# Altium footprint library led_7seg_big.PcbLib: 17 footprints (part 1 of 2)
Each footprint in its own frame and in the unit in brackets; x right, y up, seen from the top. Pads: shape width x height; smd on the part's side, far side on the other; paste and mask are expansions set on the pad; w line width, h text height; cw(c..) or ccw(c..) is an arc to the next point about the centre after c.
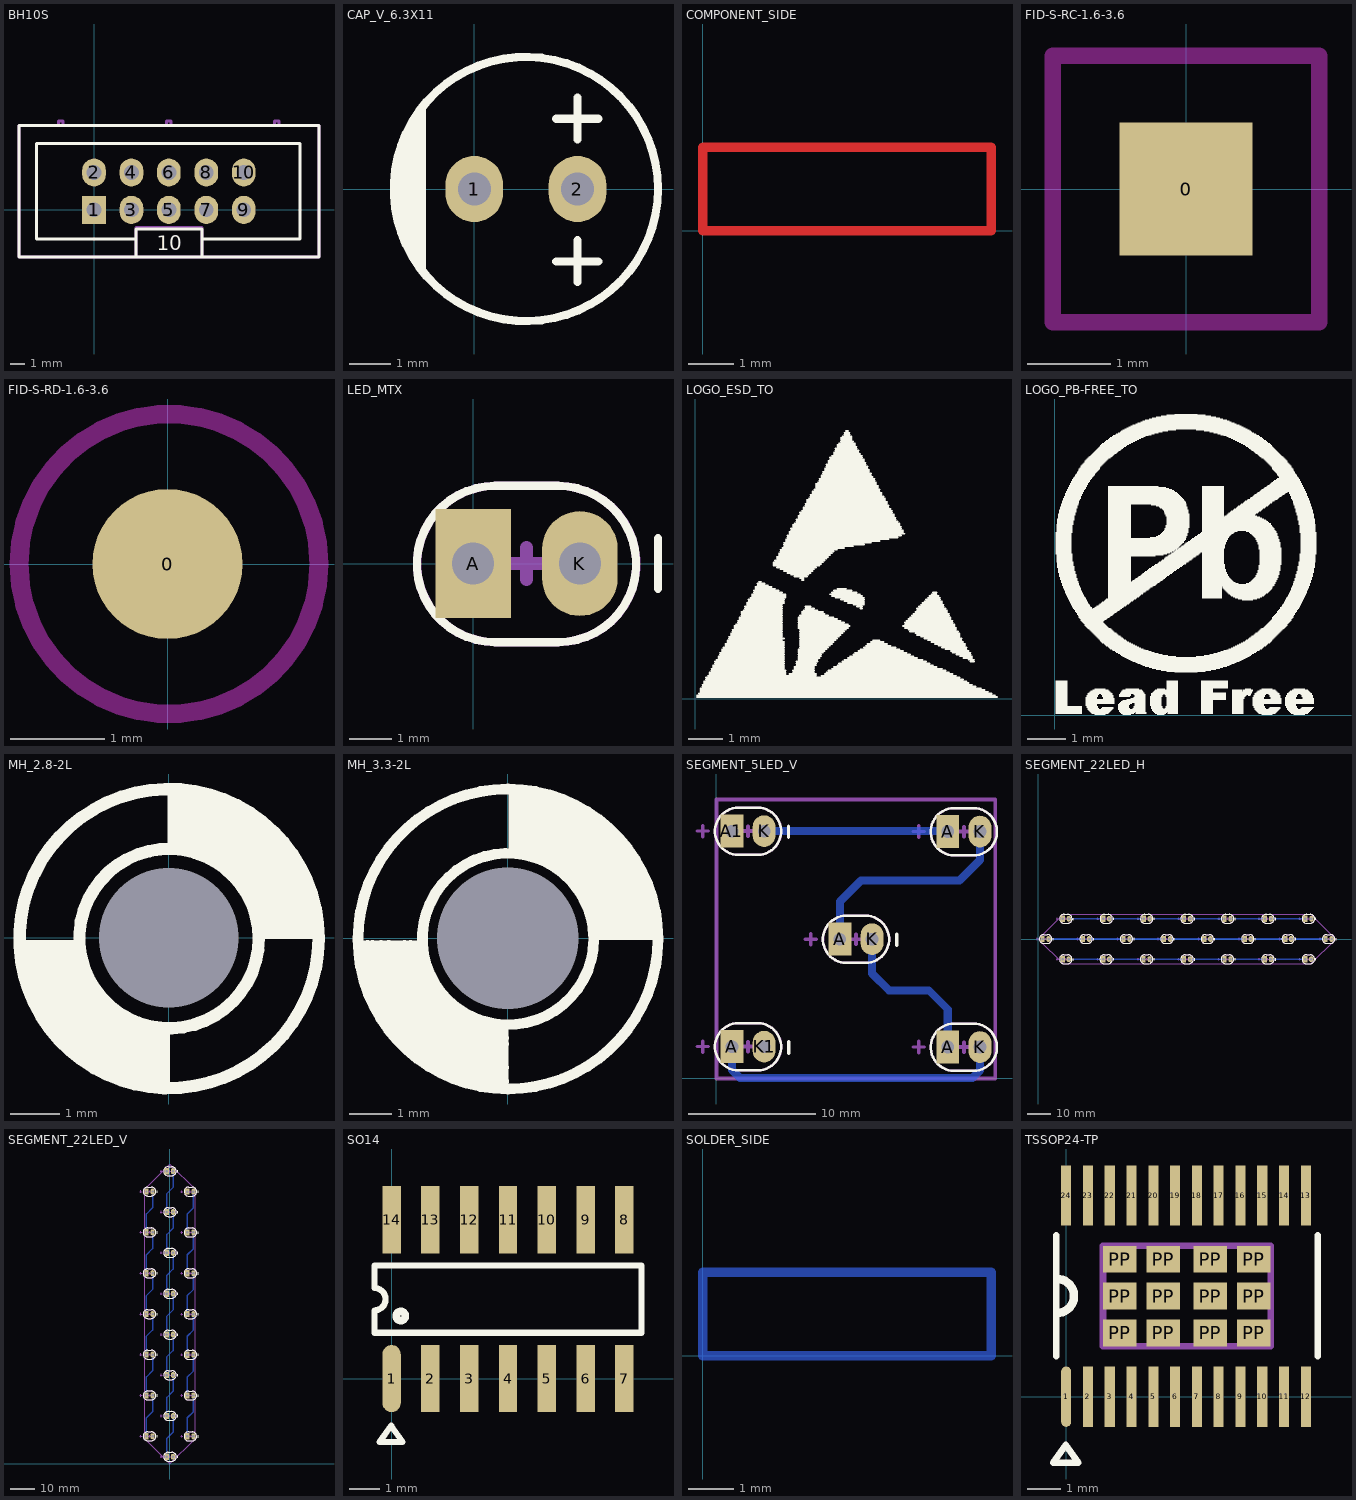
[diagram p0: the footprints below, top view; thin cyan lines are the x and y axes]

## BH10S [mm]
pads (10):
  rect 1.6x1.9 hole 1: 1(0,0)
  oval 1.6x1.9 hole 1: 2(0,2.54) 3(2.54,0) 4(2.54,2.54) 5(5.08,0) 6(5.08,2.54) 7(7.62,0) 8(7.62,2.54) 9(10.16,0) 10(10.16,2.54)
Top Overlay:
  lines w0.2: 2.835,-3.185 2.835,-1.29 7.335,-1.29 7.335,-3.185 ; 2.835,-1.985 -3.89,-1.985 -3.89,4.515 13.96,4.515 13.96,-1.985 7.335,-1.985 ; -5.09,-3.185 -5.09,5.715 15.26,5.715 15.26,-3.185 -5.09,-3.185
  text "10" at 4.26,-2.735 h1
Mechanical 1:
  lines w0.2: 12.55,6 12.55,5.715 15.26,5.715 15.26,-3.185 -5.09,-3.185 -5.09,5.715 -2.4,5.715 -2.4,6.015 -2.1,6.015 -2.1,5.715 4.925,5.715 4.925,6.015 5.225,6.015 5.225,5.715 12.25,5.715 12.25,6.015 12.55,6.015 ; 2.835,-3.185 2.835,-1.185 7.335,-1.185 7.335,-3.185 2.835,-3.185

## CAP_V_6.3X11 [mm]
pads (2):
  oval 1.4x1.6 hole 0.8: 1(0,0) 2(2.5,0)
Top Overlay:
  circle w0.2: c1.25,0 r3.2
  region: -1.168,-1.702 -1.168,-1.346 -1.549,-1.346 -1.549,-1.702
  region: -1.721,1.397 -1.721,-1.346 -1.168,-1.346 -1.168,1.397
  region: -1.575,1.702 -1.575,1.372 -1.168,1.372 -1.168,1.702
  region: -1.88,0.711 -1.88,-0.914 -1.702,-0.914 -1.702,0.711
  region: -1.88,0.914 -1.88,0.66 -1.651,0.66 -1.651,0.914
  region: -1.372,-1.702 -1.372,-1.981 -1.168,-1.981 -1.168,-1.702
  region: -1.346,1.956 -1.346,1.549 -1.168,1.549 -1.168,1.956
  lines w0.2: 1.984,-1.754 3,-1.754 ; 1.984,1.7 3,1.7 ; 2.5,-2.254 2.5,-1.238 ; 2.5,1.2 2.5,2.216

## COMPONENT_SIDE [mm]
Top Layer:
  lines w0.203: 0,0 0,1.829 6.325,1.829 6.325,0 0,0
  text "C-SIDE" at 0.406,0.422 h1
Top Solder:
  rectangle: -0.127,-0.127 6.452,1.956

## FID-S-RC-1.6-3.6 [mm]
pads (1):
  rect 1.6x1.6 smd: 0(0,0)
Top Layer keep-out:
  lines w0.2: -1.6,-1.6 -1.6,1.6 1.6,1.6 1.6,-1.6 -1.6,-1.6
Top Solder:
  rectangle: -1.8,-1.8 1.8,1.8

## FID-S-RD-1.6-3.6 [mm]
pads (1):
  round 1.6 smd: 0(0,0)
Top Layer keep-out:
  circle w0.2: c0.016,0 r1.6
Top Solder:
  circle w3: c0,0 r0.3

## LED_MTX [mm]
pads (2):
  rect 1.8x2.6 hole 1: A(0,0)
  oval 1.8x2.5 hole 1: K(2.54,0)
Top Overlay:
  lines w0.2: 4.4,-0.6 4.4,0.6 ; 0.52,-1.872 cw(c0.52,-0.011) 0.52,1.85 2.02,1.85 cw(c2.02,-0.011) 2.02,-1.872 0.52,-1.872
Bottom Overlay:
  lines w0.2: -2.5,0 -1.3,0 ; -1.9,-0.6 -1.9,0.6 ; 4.4,-0.6 4.4,0.6
Top Solder:
  lines w0.254: -2.743,0 -1.843,0 ; -2.293,-0.45 -2.293,0.45
Mechanical 1:
  lines w0.2: 0.525,-1.872 cw(c0.525,-0.011) 0.525,1.85 2.025,1.85 cw(c2.025,-0.011) 2.025,-1.872 0.525,-1.872
Mechanical 4:
  lines w0.305: 0.762,0 1.778,0 ; 1.27,-0.381 1.27,0.381

## LOGO_ESD_TO [mm]
Top Overlay:
  drawing of 263 lines, arcs and shapes, not listed
Mechanical 13:
  text "ESD SENSITIVE" at -1.9,-1.6 h1

## LOGO_PB-FREE_TO [mm]
Top Overlay:
  drawing of 1186 lines, arcs and shapes, not listed

## MH_2.8-2L [mm]
pads (1):
  round 0 hole 2.8 unplated: 0(0,0)
Top Overlay:
  circle w0.25: c0.007,-0.019 r3
  circle w0.25: c0.007,-0.019 r1.8
  region: -1.783,-0.15 -1.752,-0.458 -1.663,-0.753 -1.517,-1.026 -1.321,-1.265 -1.315,-1.26 -1.067,-1.466 -0.835,-1.644 -0.565,-1.756 -0.275,-1.794 -0.275,-1.784 -0.075,-1.825 -0.075,-3.025 -0.148,-3.037 -0.646,-2.988 -1.125,-2.843 -1.566,-2.607 -1.953,-2.29 -1.944,-2.281 -2.19,-2.053 -2.507,-1.666 -2.743,-1.225 -2.888,-0.746 -2.937,-0.248 -2.925,-0.248 -2.925,-0.15
  region: 1.783,0.075 1.752,0.383 1.663,0.678 1.517,0.951 1.321,1.19 1.315,1.185 1.067,1.391 0.835,1.569 0.565,1.681 0.275,1.719 0.275,1.709 0.075,1.75 0.075,2.95 0.148,2.962 0.646,2.913 1.125,2.768 1.566,2.532 1.953,2.215 1.944,2.206 2.19,1.978 2.507,1.591 2.743,1.15 2.888,0.671 2.937,0.173 2.925,0.173 2.925,0.075
  lines w0.25: -2.925,-0.175 -1.85,-0.175 ; -0.101,-2.95 -0.1,-1.9 ; 0.1,1.825 0.101,2.875 ; 1.85,0.1 2.925,0.1
  lines w0.254: -2.954,-0.171 ccw(c0.019,-0.044) -0.098,-3.017 ; 0.098,2.942 cw(c-0.019,-0.031) 2.954,0.096

## MH_3.3-2L [mm]
pads (1):
  round 0 hole 3.3 unplated: 0(0,0)
Top Overlay:
  circle w0.25: c0.007,-0.019 r2
  circle w0.25: c0.007,-0.019 r3.5
  lines w0.25: -3.481,-0.174 -2.011,-0.174 ; -0.101,-3.494 -0.101,-2.024 ; 0.149,1.996 0.149,3.466 ; 2.019,0.086 3.489,0.086
  lines w0.254: -3.273,-0.166 ccw(c0.019,-0.044) -0.096,-3.337 ; -3.153,-0.174 ccw(c0.019,-0.044) -0.106,-3.217 ; -2.954,-0.171 ccw(c0.019,-0.044) -0.098,-3.017 ; -2.775,-0.174 ccw(c0.019,-0.044) -0.107,-2.838 ; -2.583,-0.177 ccw(c0.019,-0.044) -0.104,-2.647 ; -2.404,-0.175 ccw(c0.019,-0.044) -0.102,-2.467 ; -2.267,-0.174 ccw(c0.019,-0.044) -0.101,-2.331 ; -2.045,-0.161 ccw(c0.019,-0.044) -0.106,-2.108 ; 0.261,3.376 cw(c0.146,0.083) 3.438,0.205 ; 0.263,3.056 cw(c0.146,0.083) 3.119,0.21 ; 0.266,2.37 cw(c0.146,0.083) 2.432,0.213 ; 0.267,2.506 cw(c0.146,0.083) 2.569,0.214 ; 0.269,2.686 cw(c0.146,0.083) 2.748,0.216 ; 0.271,2.147 cw(c0.146,0.083) 2.21,0.2 ; 0.271,3.256 cw(c0.146,0.083) 3.318,0.213 ; 0.272,2.877 cw(c0.146,0.083) 2.94,0.213
Bottom Overlay:
  circle w0.25: c0.007,-0.019 r3.5
  circle w0.25: c0.007,-0.019 r2
  lines w0.25: -3.481,-0.174 -2.011,-0.174 ; -0.101,-3.494 -0.101,-2.024 ; 0.149,1.996 0.149,3.466 ; 2.019,0.086 3.489,0.086
  lines w0.254: -3.273,-0.166 ccw(c0.019,-0.044) -0.096,-3.337 ; -3.153,-0.174 ccw(c0.019,-0.044) -0.106,-3.217 ; -2.954,-0.171 ccw(c0.019,-0.044) -0.098,-3.017 ; -2.775,-0.174 ccw(c0.019,-0.044) -0.107,-2.838 ; -2.583,-0.177 ccw(c0.019,-0.044) -0.104,-2.647 ; -2.404,-0.175 ccw(c0.019,-0.044) -0.102,-2.467 ; -2.267,-0.174 ccw(c0.019,-0.044) -0.101,-2.331 ; -2.045,-0.161 ccw(c0.019,-0.044) -0.106,-2.108 ; 0.261,3.376 cw(c0.146,0.083) 3.438,0.205 ; 0.263,3.056 cw(c0.146,0.083) 3.119,0.21 ; 0.266,2.37 cw(c0.146,0.083) 2.432,0.213 ; 0.267,2.506 cw(c0.146,0.083) 2.569,0.214 ; 0.269,2.686 cw(c0.146,0.083) 2.748,0.216 ; 0.271,2.147 cw(c0.146,0.083) 2.21,0.2 ; 0.271,3.256 cw(c0.146,0.083) 3.318,0.213 ; 0.272,2.877 cw(c0.146,0.083) 2.94,0.213

## SEGMENT_5LED_V [mm]
pads (10):
  rect 1.8x2.6 hole 1: A(1.23,2.5) A(9.746,10.976) A(18.255,2.467) A(18.255,19.467) A1(1.23,19.5)
  oval 1.8x2.5 hole 1: K(3.77,19.5) K(12.286,10.976) K(20.795,2.467) K(20.795,19.467) K1(3.77,2.5)
Bottom Layer:
  lines w0.635: 1.23,2.5 1.23,0.67 1.857,0.043 20.209,0.043 20.795,0.629 20.795,2.467 ; 3.77,19.5 18.255,19.5 ; 9.746,10.976 9.746,13.946 11.4,15.6 19.184,15.6 20.795,17.211 20.795,19.467 ; 12.286,10.976 12.286,8.266 13.609,6.943 16.757,6.943 18.255,5.445 18.255,2.467
Top Overlay:
  lines w0.2: 1.75,0.628 cw(c1.75,2.489) 1.75,4.35 3.25,4.35 cw(c3.25,2.489) 3.25,0.628 1.75,0.628 ; 1.75,17.628 cw(c1.75,19.489) 1.75,21.35 3.25,21.35 cw(c3.25,19.489) 3.25,17.628 1.75,17.628 ; 10.266,9.104 cw(c10.266,10.965) 10.266,12.826 11.766,12.826 cw(c11.766,10.965) 11.766,9.104 10.266,9.104 ; 18.775,0.595 cw(c18.775,2.456) 18.775,4.317 20.275,4.317 cw(c20.275,2.456) 20.275,0.595 18.775,0.595 ; 18.775,17.595 cw(c18.775,19.456) 18.775,21.317 20.275,21.317 cw(c20.275,19.456) 20.275,17.595 18.775,17.595
  lines w0.254: 5.7,19 5.7,19.9 ; 5.719,1.982 5.719,2.882 ; 14.228,10.491 14.228,11.391
Bottom Overlay:
  lines w0.254: -1.525,19.528 -0.625,19.528 ; -1.506,2.51 -0.606,2.51 ; -1.075,19.078 -1.075,19.978 ; -1.056,2.06 -1.056,2.96 ; 5.7,19 5.7,19.9 ; 5.719,1.982 5.719,2.882 ; 7.003,11.019 7.903,11.019 ; 7.453,10.569 7.453,11.469 ; 14.228,10.491 14.228,11.391 ; 15.478,2.716 16.378,2.716 ; 15.478,19.734 16.378,19.734 ; 15.928,2.266 15.928,3.166 ; 15.928,19.284 15.928,20.184
Mechanical 1:
  lines w0.2: 1.755,0.628 cw(c1.755,2.489) 1.755,4.35 3.255,4.35 cw(c3.255,2.489) 3.255,0.628 1.755,0.628 ; 1.755,17.628 cw(c1.755,19.489) 1.755,21.35 3.255,21.35 cw(c3.255,19.489) 3.255,17.628 1.755,17.628 ; 10.271,9.104 cw(c10.271,10.965) 10.271,12.826 11.771,12.826 cw(c11.771,10.965) 11.771,9.104 10.271,9.104 ; 18.78,0.595 cw(c18.78,2.456) 18.78,4.317 20.28,4.317 cw(c20.28,2.456) 20.28,0.595 18.78,0.595 ; 18.78,17.595 cw(c18.78,19.456) 18.78,21.317 20.28,21.317 cw(c20.28,19.456) 20.28,17.595 18.78,17.595
  lines w0.305: 1.992,2.5 3.008,2.5 ; 1.992,19.5 3.008,19.5 ; 2.5,2.119 2.5,2.881 ; 2.5,19.119 2.5,19.881 ; 10.508,10.976 11.524,10.976 ; 11.016,10.595 11.016,11.357 ; 19.017,2.467 20.033,2.467 ; 19.017,19.467 20.033,19.467 ; 19.525,2.086 19.525,2.848 ; 19.525,19.086 19.525,19.848 ; 0,0 22,0 22,21.982 0,21.982 0,0
Mechanical 13:
  lines w0.254: -1.513,2.5 -0.613,2.5 ; -1.513,19.5 -0.613,19.5 ; -1.063,2.05 -1.063,2.95 ; -1.063,19.05 -1.063,19.95 ; 7.003,10.976 7.903,10.976 ; 7.453,10.526 7.453,11.426 ; 15.512,2.467 16.412,2.467 ; 15.512,19.467 16.412,19.467 ; 15.962,2.017 15.962,2.917 ; 15.962,19.017 15.962,19.917
3D body "LED_oval.step": height 7.3, standoff -4.2, extent 0.4,17.904 4.6,21.096
3D body "LED_oval.step": height 7.3, standoff -4.2, extent 17.425,17.871 21.625,21.063
3D body "LED_oval.step": height 7.3, standoff -4.2, extent 8.916,9.38 13.116,12.572
3D body "LED_oval.step": height 7.3, standoff -4.2, extent 0.4,0.904 4.6,4.096
3D body "LED_oval.step": height 7.3, standoff -4.2, extent 17.425,0.871 21.625,4.063

## SEGMENT_22LED_H [mm]
pads (44):
  rect 1.8x2.6 hole 1: A(18.75,0) A(27.21,-8.5) A(27.25,8.5) A(35.75,0) A(44.21,-8.5) A(44.25,8.5) A(52.75,0) A(61.21,-8.5) A(61.25,8.5) A(69.75,0) A(78.21,-8.5) A(78.25,8.5) A(86.75,0) A(95.21,-8.5) A(95.25,8.5) A(103.75,0) A(112.21,-8.5) A(112.25,8.5) A(120.75,0) A1(10.21,-8.5) A2(1.75,0) A3(10.25,8.5)
  oval 1.8x2.5 hole 1: K(4.29,0) K(12.75,-8.5) K(12.79,8.5) K(21.29,0) K(29.75,-8.5) K(29.79,8.5) K(38.29,0) K(46.75,-8.5) K(46.79,8.5) K(55.29,0) K(63.75,-8.5) K(63.79,8.5) K(72.29,0) K(80.75,-8.5) K(80.79,8.5) K(89.29,0) K(97.75,-8.5) K(97.79,8.5) K(106.29,0) K1(114.79,8.5) K2(123.29,0) K3(114.75,-8.5)
Bottom Layer:
  lines w0.635: 4.29,0 18.75,0 ; 12.75,-8.5 27.21,-8.5 ; 12.79,8.5 27.25,8.5 ; 21.29,0 35.75,0 ; 29.75,-8.5 44.21,-8.5 ; 29.79,8.5 44.25,8.5 ; 38.29,0 52.75,0 ; 46.75,-8.5 61.21,-8.5 ; 46.79,8.5 61.25,8.5 ; 55.29,0 69.75,0 ; 63.75,-8.5 78.21,-8.5 ; 63.79,8.5 78.25,8.5 ; 72.29,0 86.75,0 ; 80.75,-8.5 95.21,-8.5 ; 80.79,8.5 95.25,8.5 ; 89.29,0 103.75,0 ; 97.75,-8.5 112.21,-8.5 ; 97.79,8.5 112.25,8.5 ; 106.29,0 120.75,0
Top Overlay:
  lines w0.2: 2.27,-1.872 cw(c2.27,-0.011) 2.27,1.85 3.77,1.85 cw(c3.77,-0.011) 3.77,-1.872 2.27,-1.872 ; 10.73,-10.372 cw(c10.73,-8.511) 10.73,-6.65 12.23,-6.65 cw(c12.23,-8.511) 12.23,-10.372 10.73,-10.372 ; 10.77,6.628 cw(c10.77,8.489) 10.77,10.35 12.27,10.35 cw(c12.27,8.489) 12.27,6.628 10.77,6.628 ; 19.27,-1.872 cw(c19.27,-0.011) 19.27,1.85 20.77,1.85 cw(c20.77,-0.011) 20.77,-1.872 19.27,-1.872 ; 27.73,-10.372 cw(c27.73,-8.511) 27.73,-6.65 29.23,-6.65 cw(c29.23,-8.511) 29.23,-10.372 27.73,-10.372 ; 27.77,6.628 cw(c27.77,8.489) 27.77,10.35 29.27,10.35 cw(c29.27,8.489) 29.27,6.628 27.77,6.628 ; 36.27,-1.872 cw(c36.27,-0.011) 36.27,1.85 37.77,1.85 cw(c37.77,-0.011) 37.77,-1.872 36.27,-1.872 ; 44.73,-10.372 cw(c44.73,-8.511) 44.73,-6.65 46.23,-6.65 cw(c46.23,-8.511) 46.23,-10.372 44.73,-10.372 ; 44.77,6.628 cw(c44.77,8.489) 44.77,10.35 46.27,10.35 cw(c46.27,8.489) 46.27,6.628 44.77,6.628 ; 53.27,-1.872 cw(c53.27,-0.011) 53.27,1.85 54.77,1.85 cw(c54.77,-0.011) 54.77,-1.872 53.27,-1.872 ; 61.73,-10.372 cw(c61.73,-8.511) 61.73,-6.65 63.23,-6.65 cw(c63.23,-8.511) 63.23,-10.372 61.73,-10.372 ; 61.77,6.628 cw(c61.77,8.489) 61.77,10.35 63.27,10.35 cw(c63.27,8.489) 63.27,6.628 61.77,6.628 ; 70.27,-1.872 cw(c70.27,-0.011) 70.27,1.85 71.77,1.85 cw(c71.77,-0.011) 71.77,-1.872 70.27,-1.872 ; 78.73,-10.372 cw(c78.73,-8.511) 78.73,-6.65 80.23,-6.65 cw(c80.23,-8.511) 80.23,-10.372 78.73,-10.372 ; 78.77,6.628 cw(c78.77,8.489) 78.77,10.35 80.27,10.35 cw(c80.27,8.489) 80.27,6.628 78.77,6.628 ; 87.27,-1.872 cw(c87.27,-0.011) 87.27,1.85 88.77,1.85 cw(c88.77,-0.011) 88.77,-1.872 87.27,-1.872 ; 95.73,-10.372 cw(c95.73,-8.511) 95.73,-6.65 97.23,-6.65 cw(c97.23,-8.511) 97.23,-10.372 95.73,-10.372 ; 95.77,6.628 cw(c95.77,8.489) 95.77,10.35 97.27,10.35 cw(c97.27,8.489) 97.27,6.628 95.77,6.628 ; 104.27,-1.872 cw(c104.27,-0.011) 104.27,1.85 105.77,1.85 cw(c105.77,-0.011) 105.77,-1.872 104.27,-1.872 ; 112.73,-10.372 cw(c112.73,-8.511) 112.73,-6.65 114.23,-6.65 cw(c114.23,-8.511) 114.23,-10.372 112.73,-10.372 ; 112.77,6.628 cw(c112.77,8.489) 112.77,10.35 114.27,10.35 cw(c114.27,8.489) 114.27,6.628 112.77,6.628 ; 121.27,-1.872 cw(c121.27,-0.011) 121.27,1.85 122.77,1.85 cw(c122.77,-0.011) 122.77,-1.872 121.27,-1.872
  lines w0.254: 6.203,-0.576 6.203,0.324 ; 14.7,7.9 14.7,8.8 ; 14.719,-9.118 14.719,-8.218 ; 23.228,-0.609 23.228,0.291 ; 31.703,-8.912 31.703,-8.012 ; 31.703,8.106 31.703,9.006 ; 40.219,-0.436 40.219,0.464 ; 48.728,-8.945 48.728,-8.045 ; 48.728,8.073 48.728,8.973 ; 57.203,-0.53 57.203,0.37 ; 65.719,-9.072 65.719,-8.172 ; 65.719,7.946 65.719,8.846 ; 74.228,-0.563 74.228,0.337 ; 82.703,-9.039 82.703,-8.139 ; 82.703,7.979 82.703,8.879 ; 91.219,-0.563 91.219,0.337 ; 99.728,-9.072 99.728,-8.172 ; 99.728,7.946 99.728,8.846 ; 108.103,-0.457 108.103,0.443 ; 116.619,-8.999 116.619,-8.099 ; 116.619,8.019 116.619,8.919 ; 125.128,-0.49 125.128,0.41
Bottom Overlay:
  lines w0.254: -1.022,-0.048 -0.122,-0.048 ; -0.572,-0.498 -0.572,0.402 ; 6.203,-0.576 6.203,0.324 ; 7.475,8.428 8.375,8.428 ; 7.494,-8.59 8.394,-8.59 ; 7.925,7.978 7.925,8.878 ; 7.944,-9.04 7.944,-8.14 ; 14.7,7.9 14.7,8.8 ; 14.719,-9.118 14.719,-8.218 ; 16.003,-0.081 16.903,-0.081 ; 16.453,-0.531 16.453,0.369 ; 23.228,-0.609 23.228,0.291 ; 24.478,-8.384 25.378,-8.384 ; 24.478,8.634 25.378,8.634 ; 24.928,-8.834 24.928,-7.934 ; 24.928,8.184 24.928,9.084 ; 31.703,-8.912 31.703,-8.012 ; 31.703,8.106 31.703,9.006 ; 32.994,0.092 33.894,0.092 ; 33.444,-0.358 33.444,0.542 ; 40.219,-0.436 40.219,0.464 ; 41.503,-8.417 42.403,-8.417 ; 41.503,8.601 42.403,8.601 ; 41.953,-8.867 41.953,-7.967 ; 41.953,8.151 41.953,9.051 ; 48.728,-8.945 48.728,-8.045 ; 48.728,8.073 48.728,8.973 ; 49.978,-0.002 50.878,-0.002 ; 50.428,-0.452 50.428,0.448 ; 57.203,-0.53 57.203,0.37 ; 58.494,-8.544 59.394,-8.544 ; 58.494,8.474 59.394,8.474 ; 58.944,-8.994 58.944,-8.094 ; 58.944,8.024 58.944,8.924 ; 65.719,-9.072 65.719,-8.172 ; 65.719,7.946 65.719,8.846 ; 67.003,-0.035 67.903,-0.035 ; 67.453,-0.485 67.453,0.415 ; 74.228,-0.563 74.228,0.337 ; 75.478,-8.511 76.378,-8.511 ; 75.478,8.507 76.378,8.507 ; 75.928,-8.961 75.928,-8.061 ; 75.928,8.057 75.928,8.957 ; 82.703,-9.039 82.703,-8.139 ; 82.703,7.979 82.703,8.879 ; 83.994,-0.035 84.894,-0.035 ; 84.444,-0.485 84.444,0.415 ; 91.219,-0.563 91.219,0.337 ; 92.503,-8.544 93.403,-8.544 ; 92.503,8.474 93.403,8.474 ; 92.953,-8.994 92.953,-8.094 ; 92.953,8.024 92.953,8.924 ; 99.728,-9.072 99.728,-8.172 ; 99.728,7.946 99.728,8.846 ; 100.878,0.071 101.778,0.071 ; 101.328,-0.379 101.328,0.521 ; 108.103,-0.457 108.103,0.443 ; 109.394,-8.471 110.294,-8.471 ; 109.394,8.547 110.294,8.547 ; 109.844,-8.921 109.844,-8.021 ; 109.844,8.097 109.844,8.997 ; 116.619,-8.999 116.619,-8.099 ; 116.619,8.019 116.619,8.919 ; 117.903,0.038 118.803,0.038 ; 118.353,-0.412 118.353,0.488 ; 125.128,-0.49 125.128,0.41
Mechanical 1:
  lines w0.2: 2.275,-1.872 cw(c2.275,-0.011) 2.275,1.85 3.775,1.85 cw(c3.775,-0.011) 3.775,-1.872 2.275,-1.872 ; 10.735,-10.372 cw(c10.735,-8.511) 10.735,-6.65 12.235,-6.65 cw(c12.235,-8.511) 12.235,-10.372 10.735,-10.372 ; 10.775,6.628 cw(c10.775,8.489) 10.775,10.35 12.275,10.35 cw(c12.275,8.489) 12.275,6.628 10.775,6.628 ; 19.275,-1.872 cw(c19.275,-0.011) 19.275,1.85 20.775,1.85 cw(c20.775,-0.011) 20.775,-1.872 19.275,-1.872 ; 27.735,-10.372 cw(c27.735,-8.511) 27.735,-6.65 29.235,-6.65 cw(c29.235,-8.511) 29.235,-10.372 27.735,-10.372 ; 27.775,6.628 cw(c27.775,8.489) 27.775,10.35 29.275,10.35 cw(c29.275,8.489) 29.275,6.628 27.775,6.628 ; 36.275,-1.872 cw(c36.275,-0.011) 36.275,1.85 37.775,1.85 cw(c37.775,-0.011) 37.775,-1.872 36.275,-1.872 ; 44.735,-10.372 cw(c44.735,-8.511) 44.735,-6.65 46.235,-6.65 cw(c46.235,-8.511) 46.235,-10.372 44.735,-10.372 ; 44.775,6.628 cw(c44.775,8.489) 44.775,10.35 46.275,10.35 cw(c46.275,8.489) 46.275,6.628 44.775,6.628 ; 53.275,-1.872 cw(c53.275,-0.011) 53.275,1.85 54.775,1.85 cw(c54.775,-0.011) 54.775,-1.872 53.275,-1.872 ; 61.735,-10.372 cw(c61.735,-8.511) 61.735,-6.65 63.235,-6.65 cw(c63.235,-8.511) 63.235,-10.372 61.735,-10.372 ; 61.775,6.628 cw(c61.775,8.489) 61.775,10.35 63.275,10.35 cw(c63.275,8.489) 63.275,6.628 61.775,6.628 ; 70.275,-1.872 cw(c70.275,-0.011) 70.275,1.85 71.775,1.85 cw(c71.775,-0.011) 71.775,-1.872 70.275,-1.872 ; 78.735,-10.372 cw(c78.735,-8.511) 78.735,-6.65 80.235,-6.65 cw(c80.235,-8.511) 80.235,-10.372 78.735,-10.372 ; 78.775,6.628 cw(c78.775,8.489) 78.775,10.35 80.275,10.35 cw(c80.275,8.489) 80.275,6.628 78.775,6.628 ; 87.275,-1.872 cw(c87.275,-0.011) 87.275,1.85 88.775,1.85 cw(c88.775,-0.011) 88.775,-1.872 87.275,-1.872 ; 95.735,-10.372 cw(c95.735,-8.511) 95.735,-6.65 97.235,-6.65 cw(c97.235,-8.511) 97.235,-10.372 95.735,-10.372 ; 95.775,6.628 cw(c95.775,8.489) 95.775,10.35 97.275,10.35 cw(c97.275,8.489) 97.275,6.628 95.775,6.628 ; 104.275,-1.872 cw(c104.275,-0.011) 104.275,1.85 105.775,1.85 cw(c105.775,-0.011) 105.775,-1.872 104.275,-1.872 ; 112.735,-10.372 cw(c112.735,-8.511) 112.735,-6.65 114.235,-6.65 cw(c114.235,-8.511) 114.235,-10.372 112.735,-10.372 ; 112.775,6.628 cw(c112.775,8.489) 112.775,10.35 114.275,10.35 cw(c114.275,8.489) 114.275,6.628 112.775,6.628 ; 121.275,-1.872 cw(c121.275,-0.011) 121.275,1.85 122.775,1.85 cw(c122.775,-0.011) 122.775,-1.872 121.275,-1.872
  lines w0.305: 2.512,0 3.528,0 ; 3.02,-0.381 3.02,0.381 ; 10.972,-8.5 11.988,-8.5 ; 11.012,8.5 12.028,8.5 ; 11.48,-8.881 11.48,-8.119 ; 11.52,8.119 11.52,8.881 ; 19.512,0 20.528,0 ; 20.02,-0.381 20.02,0.381 ; 27.972,-8.5 28.988,-8.5 ; 28.012,8.5 29.028,8.5 ; 28.48,-8.881 28.48,-8.119 ; 28.52,8.119 28.52,8.881 ; 36.512,0 37.528,0 ; 37.02,-0.381 37.02,0.381 ; 44.972,-8.5 45.988,-8.5 ; 45.012,8.5 46.028,8.5 ; 45.48,-8.881 45.48,-8.119 ; 45.52,8.119 45.52,8.881 ; 53.512,0 54.528,0 ; 54.02,-0.381 54.02,0.381 ; 61.972,-8.5 62.988,-8.5 ; 62.012,8.5 63.028,8.5 ; 62.48,-8.881 62.48,-8.119 ; 62.52,8.119 62.52,8.881 ; 70.512,0 71.528,0 ; 71.02,-0.381 71.02,0.381 ; 78.972,-8.5 79.988,-8.5 ; 79.012,8.5 80.028,8.5 ; 79.48,-8.881 79.48,-8.119 ; 79.52,8.119 79.52,8.881 ; 87.512,0 88.528,0 ; 88.02,-0.381 88.02,0.381 ; 95.972,-8.5 96.988,-8.5 ; 96.012,8.5 97.028,8.5 ; 96.48,-8.881 96.48,-8.119 ; 96.52,8.119 96.52,8.881 ; 104.512,0 105.528,0 ; 105.02,-0.381 105.02,0.381 ; 112.972,-8.5 113.988,-8.5 ; 113.012,8.5 114.028,8.5 ; 113.48,-8.881 113.48,-8.119 ; 113.52,8.119 113.52,8.881 ; 121.512,0 122.528,0 ; 122.02,-0.381 122.02,0.381 ; 0,0 10.5,10.5 114.5,10.5 125,0 114.5,-10.5 10.5,-10.5 0,0
Mechanical 13:
  lines w0.254: -0.993,0 -0.093,0 ; -0.543,-0.45 -0.543,0.45 ; 7.467,-8.5 8.367,-8.5 ; 7.507,8.5 8.407,8.5 ; 7.917,-8.95 7.917,-8.05 ; 7.957,8.05 7.957,8.95 ; 16.007,0 16.907,0 ; 16.457,-0.45 16.457,0.45 ; 24.467,-8.5 25.367,-8.5 ; 24.507,8.5 25.407,8.5 ; 24.917,-8.95 24.917,-8.05 ; 24.957,8.05 24.957,8.95 ; 33.007,0 33.907,0 ; 33.457,-0.45 33.457,0.45 ; 41.467,-8.5 42.367,-8.5 ; 41.507,8.5 42.407,8.5 ; 41.917,-8.95 41.917,-8.05 ; 41.957,8.05 41.957,8.95 ; 50.007,0 50.907,0 ; 50.457,-0.45 50.457,0.45 ; 58.467,-8.5 59.367,-8.5 ; 58.507,8.5 59.407,8.5 ; 58.917,-8.95 58.917,-8.05 ; 58.957,8.05 58.957,8.95 ; 67.007,0 67.907,0 ; 67.457,-0.45 67.457,0.45 ; 75.467,-8.5 76.367,-8.5 ; 75.507,8.5 76.407,8.5 ; 75.917,-8.95 75.917,-8.05 ; 75.957,8.05 75.957,8.95 ; 84.007,0 84.907,0 ; 84.457,-0.45 84.457,0.45 ; 92.467,-8.5 93.367,-8.5 ; 92.507,8.5 93.407,8.5 ; 92.917,-8.95 92.917,-8.05 ; 92.957,8.05 92.957,8.95 ; 101.007,0 101.907,0 ; 101.457,-0.45 101.457,0.45 ; 109.467,-8.5 110.367,-8.5 ; 109.507,8.5 110.407,8.5 ; 109.917,-8.95 109.917,-8.05 ; 109.957,8.05 109.957,8.95 ; 118.007,0 118.907,0 ; 118.457,-0.45 118.457,0.45
3D body "LED_oval.step": height 7.3, standoff -4.2, extent 0.92,-1.596 5.12,1.596
3D body "LED_oval.step": height 7.3, standoff -4.2, extent 9.429,6.913 13.629,10.105
3D body "LED_oval.step": height 7.3, standoff -4.2, extent 9.396,-10.112 13.596,-6.92
3D body "LED_oval.step": height 7.3, standoff -4.2, extent 17.92,-1.596 22.12,1.596
3D body "LED_oval.step": height 7.3, standoff -4.2, extent 26.429,6.913 30.629,10.105
3D body "LED_oval.step": height 7.3, standoff -4.2, extent 26.396,-10.112 30.596,-6.92
3D body "LED_oval.step": height 7.3, standoff -4.2, extent 34.92,-1.596 39.12,1.596
3D body "LED_oval.step": height 7.3, standoff -4.2, extent 43.429,6.913 47.629,10.105
3D body "LED_oval.step": height 7.3, standoff -4.2, extent 43.396,-10.112 47.596,-6.92
3D body "LED_oval.step": height 7.3, standoff -4.2, extent 51.9,-1.596 56.1,1.596
3D body "LED_oval.step": height 7.3, standoff -4.2, extent 60.409,6.913 64.609,10.105
3D body "LED_oval.step": height 7.3, standoff -4.2, extent 60.376,-10.112 64.576,-6.92
3D body "LED_oval.step": height 7.3, standoff -4.2, extent 68.92,-1.596 73.12,1.596
3D body "LED_oval.step": height 7.3, standoff -4.2, extent 77.429,6.913 81.629,10.105
3D body "LED_oval.step": height 7.3, standoff -4.2, extent 77.396,-10.112 81.596,-6.92
3D body "LED_oval.step": height 7.3, standoff -4.2, extent 85.92,-1.596 90.12,1.596
3D body "LED_oval.step": height 7.3, standoff -4.2, extent 94.429,6.913 98.629,10.105
3D body "LED_oval.step": height 7.3, standoff -4.2, extent 94.396,-10.112 98.596,-6.92
3D body "LED_oval.step": height 7.3, standoff -4.2, extent 102.92,-1.596 107.12,1.596
3D body "LED_oval.step": height 7.3, standoff -4.2, extent 111.429,6.913 115.629,10.105
3D body "LED_oval.step": height 7.3, standoff -4.2, extent 111.396,-10.112 115.596,-6.92
3D body "LED_oval.step": height 7.3, standoff -4.2, extent 119.936,-1.58 124.136,1.612

## SEGMENT_22LED_V [mm]
pads (44):
  rect 1.8x2.6 hole 1: A(-9.779,11.557) A(-9.779,28.575) A(-9.779,45.593) A(-9.779,62.484) A(-9.779,79.502) A(-9.779,96.52) A(-1.263,3.015) A(-1.263,20.033) A(-1.263,37.051) A(-1.263,53.942) A(-1.263,70.96) A(-1.263,87.978) A(-1.263,104.996) A(7.246,11.524) A(7.246,28.542) A(7.246,45.56) A(7.246,62.451) A(7.246,79.469) A(7.246,96.487) A1(-9.779,113.538) A2(-1.282,122.014) A3(7.246,113.505)
  oval 1.8x2.5 hole 1: K(-7.239,28.575) K(-7.239,45.593) K(-7.239,62.484) K(-7.239,79.502) K(-7.239,96.52) K(-7.239,113.538) K(1.258,122.014) K(1.277,20.033) K(1.277,37.051) K(1.277,53.942) K(1.277,70.96) K(1.277,87.978) K(1.277,104.996) K(9.786,28.542) K(9.786,45.56) K(9.786,62.451) K(9.786,79.469) K(9.786,96.487) K(9.786,113.505) K1(-7.239,11.557) K2(1.277,3.015) K3(9.786,11.524)
Bottom Layer:
  lines w0.635: -9.779,11.557 -9.779,19.258 -7.239,21.798 -7.239,28.575 ; -9.779,28.575 -9.779,36.276 -7.239,38.816 -7.239,45.593 ; -9.779,45.593 -9.779,53.294 -7.239,55.834 -7.239,62.611 ; -9.779,62.484 -9.779,70.185 -7.239,72.725 -7.239,79.502 ; -9.779,79.502 -9.779,87.203 -7.239,89.743 -7.239,96.52 ; -9.779,96.52 -9.779,104.221 -7.239,106.761 -7.239,113.538 ; -1.263,3.015 -1.263,10.716 1.277,13.256 1.277,20.033 ; -1.263,20.033 -1.263,27.734 1.277,30.274 1.277,37.051 ; -1.263,37.051 -1.263,44.752 1.277,47.292 1.277,54.069 ; -1.263,53.942 -1.263,61.643 1.277,64.183 1.277,70.96 ; -1.263,70.96 -1.263,78.661 1.277,81.201 1.277,87.978 ; -1.263,87.978 -1.263,95.679 1.277,98.219 1.277,104.996 ; -1.263,104.996 -1.263,112.697 1.277,115.237 1.277,122.014 ; 7.246,11.524 7.246,19.225 9.786,21.765 9.786,28.542 ; 7.246,28.542 7.246,36.243 9.786,38.783 9.786,45.56 ; 7.246,45.56 7.246,53.261 9.786,55.801 9.786,62.578 ; 7.246,62.451 7.246,70.152 9.786,72.692 9.786,79.469 ; 7.246,79.469 7.246,87.17 9.786,89.71 9.786,96.487 ; 7.246,96.487 7.246,104.188 9.786,106.728 9.786,113.505
Top Overlay:
  lines w0.2: -9.259,9.685 cw(c-9.259,11.546) -9.259,13.407 -7.759,13.407 cw(c-7.759,11.546) -7.759,9.685 -9.259,9.685 ; -9.259,26.703 cw(c-9.259,28.564) -9.259,30.425 -7.759,30.425 cw(c-7.759,28.564) -7.759,26.703 -9.259,26.703 ; -9.259,43.721 cw(c-9.259,45.582) -9.259,47.443 -7.759,47.443 cw(c-7.759,45.582) -7.759,43.721 -9.259,43.721 ; -9.259,60.612 cw(c-9.259,62.473) -9.259,64.334 -7.759,64.334 cw(c-7.759,62.473) -7.759,60.612 -9.259,60.612 ; -9.259,77.63 cw(c-9.259,79.491) -9.259,81.352 -7.759,81.352 cw(c-7.759,79.491) -7.759,77.63 -9.259,77.63 ; -9.259,94.648 cw(c-9.259,96.509) -9.259,98.37 -7.759,98.37 cw(c-7.759,96.509) -7.759,94.648 -9.259,94.648 ; -9.259,111.666 cw(c-9.259,113.527) -9.259,115.388 -7.759,115.388 cw(c-7.759,113.527) -7.759,111.666 -9.259,111.666 ; -0.762,120.142 cw(c-0.762,122.003) -0.762,123.864 0.738,123.864 cw(c0.738,122.003) 0.738,120.142 -0.762,120.142 ; -0.743,1.143 cw(c-0.743,3.004) -0.743,4.865 0.757,4.865 cw(c0.757,3.004) 0.757,1.143 -0.743,1.143 ; -0.743,18.161 cw(c-0.743,20.022) -0.743,21.883 0.757,21.883 cw(c0.757,20.022) 0.757,18.161 -0.743,18.161 ; -0.743,35.179 cw(c-0.743,37.04) -0.743,38.901 0.757,38.901 cw(c0.757,37.04) 0.757,35.179 -0.743,35.179 ; -0.743,52.07 cw(c-0.743,53.931) -0.743,55.792 0.757,55.792 cw(c0.757,53.931) 0.757,52.07 -0.743,52.07 ; -0.743,69.088 cw(c-0.743,70.949) -0.743,72.81 0.757,72.81 cw(c0.757,70.949) 0.757,69.088 -0.743,69.088 ; -0.743,86.106 cw(c-0.743,87.967) -0.743,89.828 0.757,89.828 cw(c0.757,87.967) 0.757,86.106 -0.743,86.106 ; -0.743,103.124 cw(c-0.743,104.985) -0.743,106.846 0.757,106.846 cw(c0.757,104.985) 0.757,103.124 -0.743,103.124 ; 7.766,9.652 cw(c7.766,11.513) 7.766,13.374 9.266,13.374 cw(c9.266,11.513) 9.266,9.652 7.766,9.652 ; 7.766,26.67 cw(c7.766,28.531) 7.766,30.392 9.266,30.392 cw(c9.266,28.531) 9.266,26.67 7.766,26.67 ; 7.766,43.688 cw(c7.766,45.549) 7.766,47.41 9.266,47.41 cw(c9.266,45.549) 9.266,43.688 7.766,43.688 ; 7.766,60.579 cw(c7.766,62.44) 7.766,64.301 9.266,64.301 cw(c9.266,62.44) 9.266,60.579 7.766,60.579 ; 7.766,77.597 cw(c7.766,79.458) 7.766,81.319 9.266,81.319 cw(c9.266,79.458) 9.266,77.597 7.766,77.597 ; 7.766,94.615 cw(c7.766,96.476) 7.766,98.337 9.266,98.337 cw(c9.266,96.476) 9.266,94.615 7.766,94.615 ; 7.766,111.633 cw(c7.766,113.494) 7.766,115.355 9.266,115.355 cw(c9.266,113.494) 9.266,111.633 7.766,111.633
  lines w0.254: -5.297,11.043 -5.297,11.943 ; -5.297,28.061 -5.297,28.961 ; -5.297,45.079 -5.297,45.979 ; -5.297,61.97 -5.297,62.87 ; -5.297,78.988 -5.297,79.888 ; -5.297,96.006 -5.297,96.906 ; -5.297,113.024 -5.297,113.924 ; 3.2,121.5 3.2,122.4 ; 3.219,2.501 3.219,3.401 ; 3.219,19.519 3.219,20.419 ; 3.219,36.537 3.219,37.437 ; 3.219,53.428 3.219,54.328 ; 3.219,70.446 3.219,71.346 ; 3.219,87.464 3.219,88.364 ; 3.219,104.482 3.219,105.382 ; 11.728,11.01 11.728,11.91 ; 11.728,28.028 11.728,28.928 ; 11.728,45.046 11.728,45.946 ; 11.728,61.937 11.728,62.837 ; 11.728,78.955 11.728,79.855 ; 11.728,95.973 11.728,96.873 ; 11.728,112.991 11.728,113.891
Bottom Overlay:
  lines w0.254: -12.522,11.571 -11.622,11.571 ; -12.522,28.589 -11.622,28.589 ; -12.522,45.607 -11.622,45.607 ; -12.522,62.498 -11.622,62.498 ; -12.522,79.516 -11.622,79.516 ; -12.522,96.534 -11.622,96.534 ; -12.522,113.552 -11.622,113.552 ; -12.072,11.121 -12.072,12.021 ; -12.072,28.139 -12.072,29.039 ; -12.072,45.157 -12.072,46.057 ; -12.072,62.048 -12.072,62.948 ; -12.072,79.066 -12.072,79.966 ; -12.072,96.084 -12.072,96.984 ; -12.072,113.102 -12.072,114.002 ; -5.297,11.043 -5.297,11.943 ; -5.297,28.061 -5.297,28.961 ; -5.297,45.079 -5.297,45.979 ; -5.297,61.97 -5.297,62.87 ; -5.297,78.988 -5.297,79.888 ; -5.297,96.006 -5.297,96.906 ; -5.297,113.024 -5.297,113.924 ; -4.025,122.028 -3.125,122.028 ; -4.006,3.029 -3.106,3.029 ; -4.006,20.047 -3.106,20.047 ; -4.006,37.065 -3.106,37.065 ; -4.006,53.956 -3.106,53.956 ; -4.006,70.974 -3.106,70.974 ; -4.006,87.992 -3.106,87.992 ; -4.006,105.01 -3.106,105.01 ; -3.575,121.578 -3.575,122.478 ; -3.556,2.579 -3.556,3.479 ; -3.556,19.597 -3.556,20.497 ; -3.556,36.615 -3.556,37.515 ; -3.556,53.506 -3.556,54.406 ; -3.556,70.524 -3.556,71.424 ; -3.556,87.542 -3.556,88.442 ; -3.556,104.56 -3.556,105.46 ; 3.2,121.5 3.2,122.4 ; 3.219,2.501 3.219,3.401 ; 3.219,19.519 3.219,20.419 ; 3.219,36.537 3.219,37.437 ; 3.219,53.428 3.219,54.328 ; 3.219,70.446 3.219,71.346 ; 3.219,87.464 3.219,88.364 ; 3.219,104.482 3.219,105.382 ; 4.503,11.538 5.403,11.538 ; 4.503,28.556 5.403,28.556 ; 4.503,45.574 5.403,45.574 ; 4.503,62.465 5.403,62.465 ; 4.503,79.483 5.403,79.483 ; 4.503,96.501 5.403,96.501 ; 4.503,113.519 5.403,113.519 ; 4.953,11.088 4.953,11.988 ; 4.953,28.106 4.953,29.006 ; 4.953,45.124 4.953,46.024 ; 4.953,62.015 4.953,62.915 ; 4.953,79.033 4.953,79.933 ; 4.953,96.051 4.953,96.951 ; 4.953,113.069 4.953,113.969 ; 11.728,11.01 11.728,11.91 ; 11.728,28.028 11.728,28.928 ; 11.728,45.046 11.728,45.946 ; 11.728,61.937 11.728,62.837 ; 11.728,78.955 11.728,79.855 ; 11.728,95.973 11.728,96.873 ; 11.728,112.991 11.728,113.891
Mechanical 1:
  lines w0.2: -9.254,9.685 cw(c-9.254,11.546) -9.254,13.407 -7.754,13.407 cw(c-7.754,11.546) -7.754,9.685 -9.254,9.685 ; -9.254,26.703 cw(c-9.254,28.564) -9.254,30.425 -7.754,30.425 cw(c-7.754,28.564) -7.754,26.703 -9.254,26.703 ; -9.254,43.721 cw(c-9.254,45.582) -9.254,47.443 -7.754,47.443 cw(c-7.754,45.582) -7.754,43.721 -9.254,43.721 ; -9.254,60.612 cw(c-9.254,62.473) -9.254,64.334 -7.754,64.334 cw(c-7.754,62.473) -7.754,60.612 -9.254,60.612 ; -9.254,77.63 cw(c-9.254,79.491) -9.254,81.352 -7.754,81.352 cw(c-7.754,79.491) -7.754,77.63 -9.254,77.63 ; -9.254,94.648 cw(c-9.254,96.509) -9.254,98.37 -7.754,98.37 cw(c-7.754,96.509) -7.754,94.648 -9.254,94.648 ; -9.254,111.666 cw(c-9.254,113.527) -9.254,115.388 -7.754,115.388 cw(c-7.754,113.527) -7.754,111.666 -9.254,111.666 ; -0.757,120.142 cw(c-0.757,122.003) -0.757,123.864 0.743,123.864 cw(c0.743,122.003) 0.743,120.142 -0.757,120.142 ; -0.738,1.143 cw(c-0.738,3.004) -0.738,4.865 0.762,4.865 cw(c0.762,3.004) 0.762,1.143 -0.738,1.143 ; -0.738,18.161 cw(c-0.738,20.022) -0.738,21.883 0.762,21.883 cw(c0.762,20.022) 0.762,18.161 -0.738,18.161 ; -0.738,35.179 cw(c-0.738,37.04) -0.738,38.901 0.762,38.901 cw(c0.762,37.04) 0.762,35.179 -0.738,35.179 ; -0.738,52.07 cw(c-0.738,53.931) -0.738,55.792 0.762,55.792 cw(c0.762,53.931) 0.762,52.07 -0.738,52.07 ; -0.738,69.088 cw(c-0.738,70.949) -0.738,72.81 0.762,72.81 cw(c0.762,70.949) 0.762,69.088 -0.738,69.088 ; -0.738,86.106 cw(c-0.738,87.967) -0.738,89.828 0.762,89.828 cw(c0.762,87.967) 0.762,86.106 -0.738,86.106 ; -0.738,103.124 cw(c-0.738,104.985) -0.738,106.846 0.762,106.846 cw(c0.762,104.985) 0.762,103.124 -0.738,103.124 ; 7.771,9.652 cw(c7.771,11.513) 7.771,13.374 9.271,13.374 cw(c9.271,11.513) 9.271,9.652 7.771,9.652 ; 7.771,26.67 cw(c7.771,28.531) 7.771,30.392 9.271,30.392 cw(c9.271,28.531) 9.271,26.67 7.771,26.67 ; 7.771,43.688 cw(c7.771,45.549) 7.771,47.41 9.271,47.41 cw(c9.271,45.549) 9.271,43.688 7.771,43.688 ; 7.771,60.579 cw(c7.771,62.44) 7.771,64.301 9.271,64.301 cw(c9.271,62.44) 9.271,60.579 7.771,60.579 ; 7.771,77.597 cw(c7.771,79.458) 7.771,81.319 9.271,81.319 cw(c9.271,79.458) 9.271,77.597 7.771,77.597 ; 7.771,94.615 cw(c7.771,96.476) 7.771,98.337 9.271,98.337 cw(c9.271,96.476) 9.271,94.615 7.771,94.615 ; 7.771,111.633 cw(c7.771,113.494) 7.771,115.355 9.271,115.355 cw(c9.271,113.494) 9.271,111.633 7.771,111.633
  lines w0.305: -9.017,11.557 -8.001,11.557 ; -9.017,28.575 -8.001,28.575 ; -9.017,45.593 -8.001,45.593 ; -9.017,62.484 -8.001,62.484 ; -9.017,79.502 -8.001,79.502 ; -9.017,96.52 -8.001,96.52 ; -9.017,113.538 -8.001,113.538 ; -8.509,11.176 -8.509,11.938 ; -8.509,28.194 -8.509,28.956 ; -8.509,45.212 -8.509,45.974 ; -8.509,62.103 -8.509,62.865 ; -8.509,79.121 -8.509,79.883 ; -8.509,96.139 -8.509,96.901 ; -8.509,113.157 -8.509,113.919 ; -0.52,122.014 0.496,122.014 ; -0.501,3.015 0.515,3.015 ; -0.501,20.033 0.515,20.033 ; -0.501,37.051 0.515,37.051 ; -0.501,53.942 0.515,53.942 ; -0.501,70.96 0.515,70.96 ; -0.501,87.978 0.515,87.978 ; -0.501,104.996 0.515,104.996 ; -0.012,121.633 -0.012,122.395 ; 0.007,2.634 0.007,3.396 ; 0.007,19.652 0.007,20.414 ; 0.007,36.67 0.007,37.432 ; 0.007,53.561 0.007,54.323 ; 0.007,70.579 0.007,71.341 ; 0.007,87.597 0.007,88.359 ; 0.007,104.615 0.007,105.377 ; 8.008,11.524 9.024,11.524 ; 8.008,28.542 9.024,28.542 ; 8.008,45.56 9.024,45.56 ; 8.008,62.451 9.024,62.451 ; 8.008,79.469 9.024,79.469 ; 8.008,96.487 9.024,96.487 ; 8.008,113.505 9.024,113.505 ; 8.516,11.143 8.516,11.905 ; 8.516,28.161 8.516,28.923 ; 8.516,45.179 8.516,45.941 ; 8.516,62.07 8.516,62.832 ; 8.516,79.088 8.516,79.85 ; 8.516,96.106 8.516,96.868 ; 8.516,113.124 8.516,113.886 ; -10.5,10.5 -10.5,114.5 0,125 10.5,114.5 10.5,10.5 0,0 -10.5,10.5 ; 8,8 8,8
Mechanical 13:
  lines w0.254: -12.522,11.557 -11.622,11.557 ; -12.522,28.575 -11.622,28.575 ; -12.522,45.593 -11.622,45.593 ; -12.522,62.484 -11.622,62.484 ; -12.522,79.502 -11.622,79.502 ; -12.522,96.52 -11.622,96.52 ; -12.522,113.538 -11.622,113.538 ; -12.072,11.107 -12.072,12.007 ; -12.072,28.125 -12.072,29.025 ; -12.072,45.143 -12.072,46.043 ; -12.072,62.034 -12.072,62.934 ; -12.072,79.052 -12.072,79.952 ; -12.072,96.07 -12.072,96.97 ; -12.072,113.088 -12.072,113.988 ; -4.025,122.014 -3.125,122.014 ; -4.006,3.015 -3.106,3.015 ; -4.006,20.033 -3.106,20.033 ; -4.006,37.051 -3.106,37.051 ; -4.006,53.942 -3.106,53.942 ; -4.006,70.96 -3.106,70.96 ; -4.006,87.978 -3.106,87.978 ; -4.006,104.996 -3.106,104.996 ; -3.575,121.564 -3.575,122.464 ; -3.556,2.565 -3.556,3.465 ; -3.556,19.583 -3.556,20.483 ; -3.556,36.601 -3.556,37.501 ; -3.556,53.492 -3.556,54.392 ; -3.556,70.51 -3.556,71.41 ; -3.556,87.528 -3.556,88.428 ; -3.556,104.546 -3.556,105.446 ; 4.503,11.524 5.403,11.524 ; 4.503,28.542 5.403,28.542 ; 4.503,45.56 5.403,45.56 ; 4.503,62.451 5.403,62.451 ; 4.503,79.469 5.403,79.469 ; 4.503,96.487 5.403,96.487 ; 4.503,113.505 5.403,113.505 ; 4.953,11.074 4.953,11.974 ; 4.953,28.092 4.953,28.992 ; 4.953,45.11 4.953,46.01 ; 4.953,62.001 4.953,62.901 ; 4.953,79.019 4.953,79.919 ; 4.953,96.037 4.953,96.937 ; 4.953,113.055 4.953,113.955
3D body "LED_oval.step": height 7.3, standoff -4.2, extent -10.609,9.961 -6.409,13.153
3D body "LED_oval.step": height 7.3, standoff -4.2, extent -2.093,1.419 2.107,4.611
3D body "LED_oval.step": height 7.3, standoff -4.2, extent 6.416,9.928 10.616,13.12
3D body "LED_oval.step": height 7.3, standoff -4.2, extent -2.093,18.437 2.107,21.629
3D body "LED_oval.step": height 7.3, standoff -4.2, extent -2.093,35.455 2.107,38.647
3D body "LED_oval.step": height 7.3, standoff -4.2, extent 6.416,26.946 10.616,30.138
3D body "LED_oval.step": height 7.3, standoff -4.2, extent -10.609,26.979 -6.409,30.171
3D body "LED_oval.step": height 7.3, standoff -4.2, extent -2.093,52.346 2.107,55.538
3D body "LED_oval.step": height 7.3, standoff -4.2, extent 6.416,43.837 10.616,47.029
3D body "LED_oval.step": height 7.3, standoff -4.2, extent -10.609,43.87 -6.409,47.062
3D body "LED_oval.step": height 7.3, standoff -4.2, extent -2.093,69.364 2.107,72.556
3D body "LED_oval.step": height 7.3, standoff -4.2, extent 6.416,60.855 10.616,64.047
3D body "LED_oval.step": height 7.3, standoff -4.2, extent -10.609,60.888 -6.409,64.08
3D body "LED_oval.step": height 7.3, standoff -4.2, extent -2.093,86.382 2.107,89.574
3D body "LED_oval.step": height 7.3, standoff -4.2, extent 6.416,77.873 10.616,81.065
3D body "LED_oval.step": height 7.3, standoff -4.2, extent -10.609,77.906 -6.409,81.098
3D body "LED_oval.step": height 7.3, standoff -4.2, extent -2.093,103.4 2.107,106.592
3D body "LED_oval.step": height 7.3, standoff -4.2, extent 6.416,94.891 10.616,98.083
3D body "LED_oval.step": height 7.3, standoff -4.2, extent -10.609,94.924 -6.409,98.116
3D body "LED_oval.step": height 7.3, standoff -4.2, extent -2.112,120.418 2.088,123.61
3D body "LED_oval.step": height 7.3, standoff -4.2, extent 6.397,111.909 10.597,115.101
3D body "LED_oval.step": height 7.3, standoff -4.2, extent -10.628,111.942 -6.428,115.134

## SO14 [mm]
pads (14):
  oval 0.6x2.2 smd: 1(0,0)
  rect 0.6x2.2 smd: 2(1.27,0) 3(2.54,0) 4(3.81,0) 5(5.08,0) 6(6.35,0) 7(7.62,0) 8(7.62,5.2) 9(6.35,5.2) 10(5.08,5.2) 11(3.81,5.2) 12(2.54,5.2) 13(1.27,5.2) 14(0,5.2)
Top Overlay:
  circle w0.25: c0.3,2.05 r0.15
  lines w0.2: -0.565,1.5 -0.565,2.233 ccw(c-0.565,2.6) -0.565,2.967 -0.565,3.7 8.185,3.7 8.185,1.5 -0.565,1.5 ; -0.388,-2.069 0.362,-2.069 -0.013,-1.544 -0.388,-2.069

## SOLDER_SIDE [mm]
Bottom Layer:
  lines w0.203: 0,0 0,1.829 6.325,1.829 6.325,0 0,0
  text "S-SIDE" at 5.918,0.406 h1
Bottom Solder:
  rectangle: -0.128,-0.127 6.451,1.956

## TSSOP24-TP [mm]
pads (36):
  oval 0.3x1.8 smd: 1(0,0)
  rect 0.3x1.8 smd: 2(0.65,0) 3(1.3,0) 4(1.95,0) 5(2.6,0) 6(3.25,0) 7(3.9,0) 8(4.55,0) 9(5.2,0) 10(5.85,0) 11(6.5,0) 12(7.15,0) 13(7.15,6) 14(6.5,6) 15(5.85,6) 16(5.2,6) 17(4.55,6) 18(3.9,6) 19(3.25,6) 20(2.6,6) 21(1.95,6) 22(1.3,6) 23(0.65,6) 24(0,6)
  rect 1x0.8 smd: PP(1.6,1.9) PP(1.6,3) PP(1.6,4.1) PP(2.9,1.9) PP(2.9,3) PP(2.9,4.1) PP(4.3,1.9) PP(4.3,3) PP(4.3,4.1) PP(5.6,1.9) PP(5.6,3) PP(5.6,4.1)
Top Overlay:
  lines w0.2: -0.294,1.206 -0.294,4.806 ; 7.506,1.206 7.506,4.806 ; -0.388,-1.969 0.362,-1.969 -0.013,-1.444 -0.388,-1.969
  lines w0.254: -0.273,2.496 ccw(c-0.273,3.004) -0.273,3.512
Mechanical 1:
  lines w0.2: 1.1,1.5 1.1,4.5 6.1,4.5 6.1,1.5 1.1,1.5